# EAGLE library part FTDI-SER-6 (library ELL-i-Connectors)
FTDI cable connector In several package variant, including pogopin version.
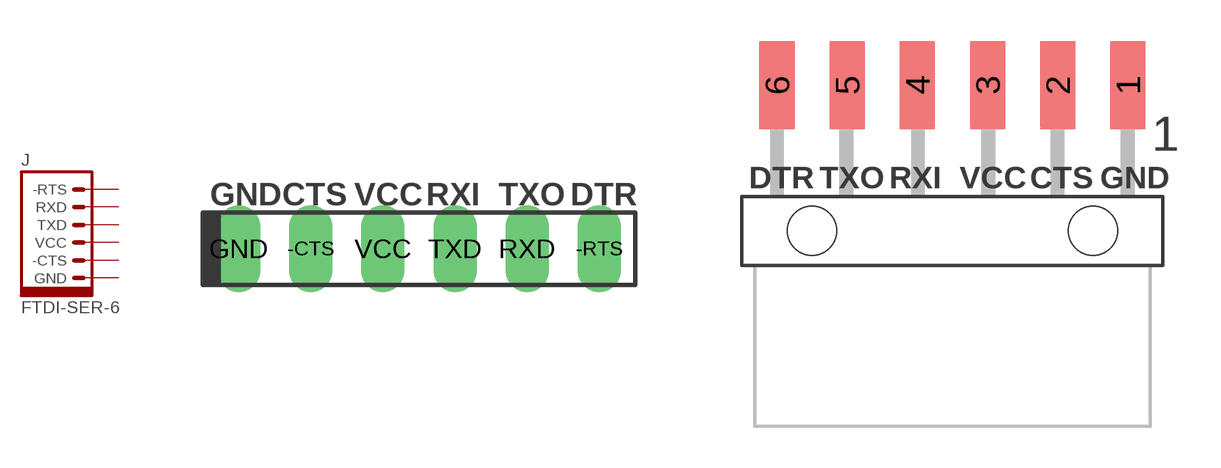
[diagram p7: symbol with the pads of FTDI-SER-6; footprints FTDI-SER-6, FTDI-TSM-106-01-L-SH]

Designator prefix J

## FTDI-SER-6  [FTDI-SER-6]
-CTS  -CTS  pas
-RTS  -RTS  pas
GND  GND  pas
RXD  RXD  pas
TXD  TXD  pas
VCC  VCC  pas

## FTDI-SER-6-HOR1  [FTDI-TSM-106-01-L-SH]
1  GND  pas
2  -CTS  pas
3  VCC  pas
4  TXD  pas
5  RXD  pas
6  -RTS  pas

## FTDI-SER-6-HOR2  [FTDI-TSM-106-01-L-SH-REV]
Pads as for FTDI-TSM-106-01-L-SH

## FTDI-SER-6-HOR2B  [FTDI-TSM-106-01-L-SH-B-REV]
Pads as for FTDI-TSM-106-01-L-SH

## FTDI-SER-6-PP  [FTDI-SER-6-SIL]
Pads as for FTDI-SER-6

## Footprint FTDI-SER-6 (pad centres in mm)
Ordinary 6-pin male header This is an ordinary, 6-pin male header, with FTDIchip programming cable lables.
drill 1.016 long: -CTS -3.81,0; -RTS 6.35,0; GND -6.35,0; RXD 3.81,0; TXD 1.27,0; VCC -1.27,0

## Footprint FTDI-TSM-106-01-L-SH (pad centres in mm)
Samtec TSM-106-01-L-SH 6-pin single row horizontal post header This is a standard 100 mil (0.1") pin header, with horisontal pins. We have the footprint in three different variants, two of which have only the holes (in normal and reverse pin order), one with copper holes (vias). This is the holes only variant, with normal pin order. Datasheet <http://www.samtec.com/documents/webfiles/pdf/tsm.pdf>
smd 1.27 x 3.17: 1 6.35,5.28; 2 3.81,5.28; 3 1.27,5.28; 4 -1.27,5.28; 5 -3.81,5.28; 6 -6.35,5.28
hole 1.78 at 5.08,0
hole 1.78 at -5.08,0

## Footprint FTDI-TSM-106-01-L-SH-REV (pad centres in mm)
Samtec TSM-106-01-L-SH 6-pin single row horizontal post header This is a standard 100 mil (0.1") pin header, with horisontal pins. We have the footprint in three different variants, two of which have only the holes (in normal and reverse pin order). This is the holes only variant, with reversed pin order. Datasheet <http://www.samtec.com/documents/webfiles/pdf/tsm.pdf>
smd 1.27 x 3.17: 1 -6.35,5.28; 2 -3.81,5.28; 3 -1.27,5.28; 4 1.27,5.28; 5 3.81,5.28; 6 6.35,5.28
hole 1.78 at 5.08,0
hole 1.78 at -5.08,0

## Footprint FTDI-TSM-106-01-L-SH-B-REV (pad centres in mm)
Samtec TSM-106-01-L-SH 6-pin single row horizontal post header This is a standard 100 mil (0.1") pin header, with horisontal pins. We have the footprint in three different variants, two of which have only the holes (in normal and reverse pin order), one with copper holes (vias). This is the one with vias and reverse pin order. Datasheet <http://www.samtec.com/documents/webfiles/pdf/tsm.pdf>
smd 1.27 x 3.17: 1 -6.35,5.28; 2 -3.81,5.28; 3 -1.27,5.28; 4 1.27,5.28; 5 3.81,5.28; 6 6.35,5.28
drill 1.78 pad 3: SUPPORT-1 -5.08,0; SUPPORT-2 5.08,0

## Footprint FTDI-SER-6-SIL (pad centres in mm)
100 mil (0.1") pitch 6-contacts footprint This is an 0.1" pitch 6-contacts footprint, suitable for pogopins, with FTDIchip programming cable lables.
drill 0.508: -CTS 3.81,0; -RTS -6.35,0; GND 6.35,0; RXD -3.81,0; TXD -1.27,0; VCC 1.27,0